# EAGLE library part PIN-SOCKET-1X6 (library basic-parts)
Distrubuter : Akizuki Densi URL : http://akizukidenshi.com/catalog/g/gC-03795/
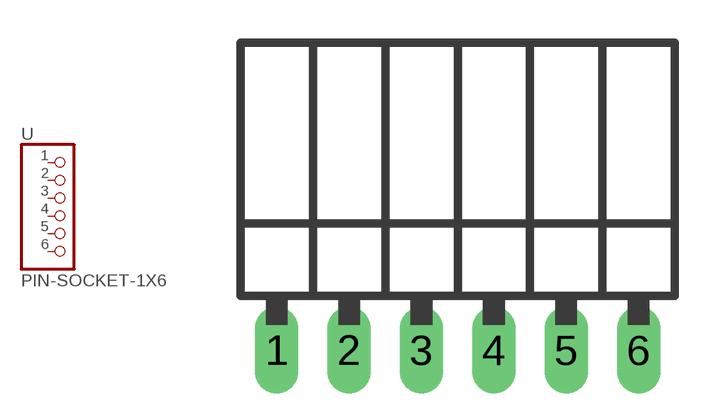
[diagram p0: symbol with the pads of PIN-SOCKET-1X6; footprint PIN-SOCKET-1X6]

Designator prefix -

## PIN-SOCKET-1X6  [PIN-SOCKET-1X6]
1  1  pas
2  2  pas
3  3  pas
4  4  pas
5  5  pas
6  6  pas

## Footprint PIN-SOCKET-1X6 (pad centres in mm)
drill 1.016 long: 1 -6.35,-3.81; 2 -3.81,-3.81; 3 -1.27,-3.81; 4 1.27,-3.81; 5 3.81,-3.81; 6 6.35,-3.81